# Altium integrated library 100uF63VAEC.IntLib: 1 symbol
Pins are listed as number, name and electrical type; pins without a type are passive.

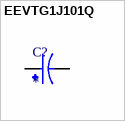
[diagram p0: symbol EEVTG1J101Q]

## EEVTG1J101Q
designator C?
100ÂµF 63V Aluminum Electrolytic Capacitors Radial, Can - SMD 260mOhm @ 100kHz 2000 Hrs @ 125Â°C; MP: EEVTG1J101Q; MF: Panasonic; Purchase-URL: https://pricing.snapeda.com/search/part/EEVTG1J101Q/?ref=eda; Package: RADIAL-2 Panasonic; Value: *; SnapEDA_Link: https://www.snapeda.com/parts/EEVTG1J101Q/Panasonic/view-part/?ref=snap; Availability: In Stock; Price: None; Check_prices: https://www.snapeda.com/parts/EEVTG1J101Q/Panasonic/view-part/?ref=eda
footprint CAP_EEVTG1J101Q
pins: 1, 2